# EAGLE library part CONNECTOR-6 (library microfloat)
6 Pin Connector
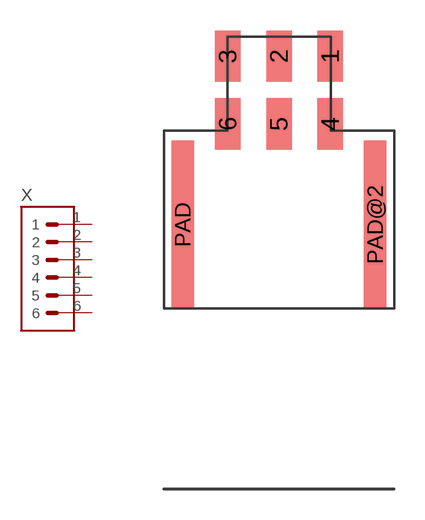
[diagram p12: symbol with the pads of MOLEX_NANOFIT_SMD_RIGHTANGLE_06; footprint MOLEX_NANOFIT_SMD_RIGHTANGLE_06]

Designator prefix X

## CONNECTOR-6PCB_MOUNT  [MOLEX_NANOFIT_SMD_RIGHTANGLE_06]
1  1  pas
2  2  pas
3  3  pas
4  4  pas
5  5  pas
6  6  pas

## Footprint MOLEX_NANOFIT_SMD_RIGHTANGLE_06 (pad centres in mm)
6 Pin Nano-Fit Vertical Header, PCB Mount, Dual Row Part <https://www.molex.com/molex/products/part-detail/pcb_headers/1054051206> Footprint <https://www.molex.com/pdm_docs/sd/1054051206_sd.pdf>
smd 1.24 x 2.5: 1 2.5,1.65; 2 0,1.65; 3 -2.5,1.65; 4 2.5,-1.65; 5 0,-1.65; 6 -2.5,-1.65
smd 1.1 x 8.2: PAD -4.7,-6.58; PAD@2 4.7,-6.58